# Altium schematic symbol library SCH - CONNECTORS - 2x3 PIN.SCHLIB: 1 symbol
Pins are listed as number, name and electrical type; pins without a type are passive.

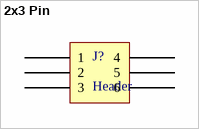
[diagram p0: symbol 2x3 Pin]

## 2x3 Pin
designator J?, comment Header
pins: 1, 2, 3, 4, 5, 6